# Altium footprint library KBL.PcbLib: 1 footprints
Each footprint in its own frame and in the unit in brackets; x right, y up, seen from the top. Pads: shape width x height; smd on the part's side, far side on the other; paste and mask are expansions set on the pad; w line width, h text height; cw(c..) or ccw(c..) is an arc to the next point about the centre after c.
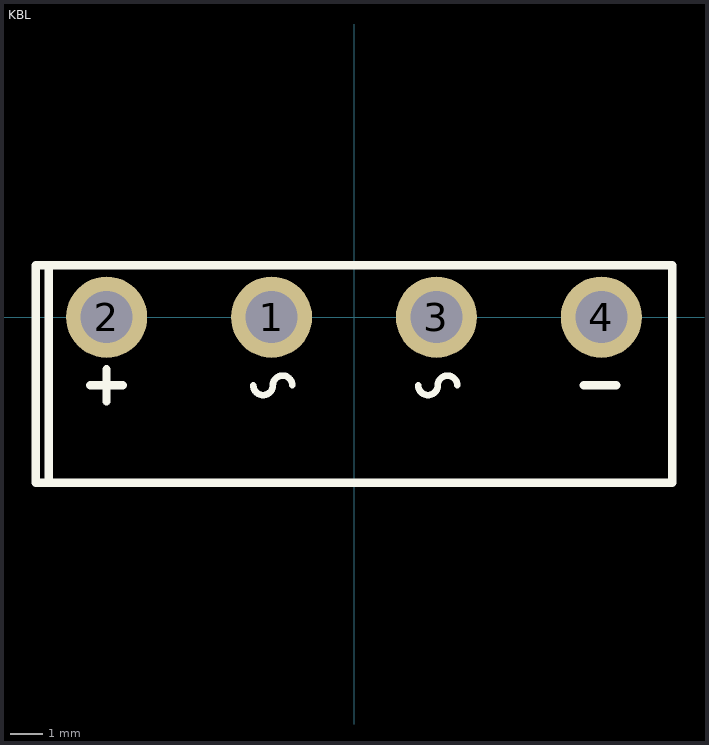
[diagram p0: the footprint, top view; thin cyan lines are the x and y axes]

## KBL [mm]
pads (4):
  round 2.5 hole 1.6: 1(-2.54,0) 2(-7.62,0) 3(2.54,0) 4(7.62,0)
Top Overlay:
  lines w0.203: -3.1,-2.1 ccw(c-2.8,-2.1) -2.5,-2.1 cw(c-2.2,-2.1) -1.9,-2.1 ; 1.98,-2.1 ccw(c2.28,-2.1) 2.58,-2.1 cw(c2.88,-2.1) 3.18,-2.1
  lines w0.254: -9.4,-5.1 -9.4,1.5 ; -8.12,-2.1 -7.12,-2.1 ; -7.62,-2.6 -7.62,-1.6 ; 7.08,-2.1 8.08,-2.1 ; -9.8,-5.1 9.8,-5.1 9.8,1.6 -9.8,1.6 -9.8,-5.1